# Altium footprint library con-molex-micro-fit-3_0.PCBLIB: 194 footprints (part 1 of 13)
Each footprint in its own frame and in the unit in brackets; x right, y up, seen from the top. Pads: shape width x height; smd on the part's side, far side on the other; paste and mask are expansions set on the pad; w line width, h text height; cw(c..) or ccw(c..) is an arc to the next point about the centre after c.
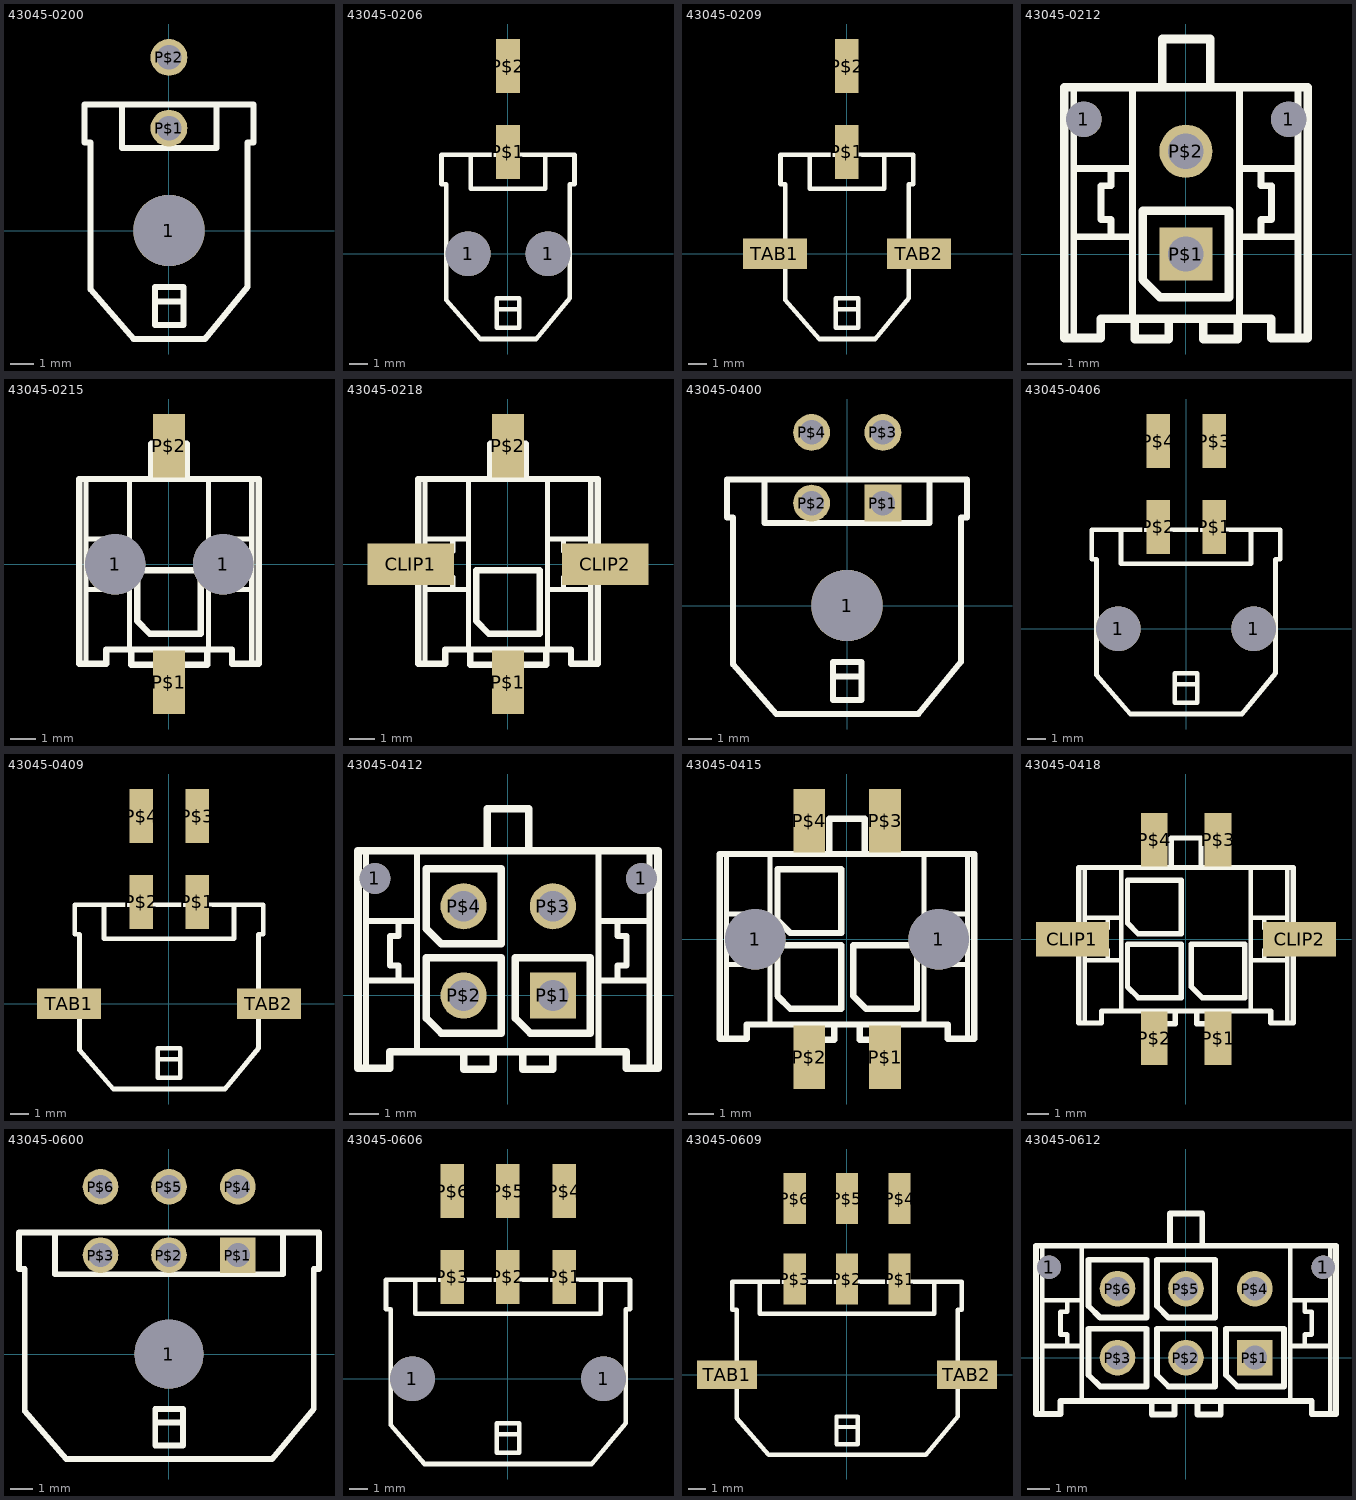
[diagram p0: the footprints below, top view; thin cyan lines are the x and y axes]

## 43045-0200 [mil]
pads (3):
  round 119 hole 119: 1(0,0)
  round 61.5 hole 41: P$1(0,171) P$2(0,289)
Top Overlay:
  lines w10: -78.74,210 -78.74,138 79,138 79,210 ; -78.74,210 79,210 ; -78.74,210 -140.94,210 -140.94,147 -130.91,147 -130.91,-98.43 -59.06,-181.1 60,-181.1 131,-94.49 131,147 141,147 141,210 79,210 ; -23.62,-118.11 24,-118.11 ; -23.62,-118.11 -23.62,-94.49 24,-94.49 24,-118.11 ; -23.62,-118.11 -23.62,-157.48 24,-157.48 24,-118.11

## 43045-0206 [mil]
pads (4):
  round 95 hole 95: 1(-84.65,0) 1(85,0)
  rect 50x115 smd: P$1(0,216) P$2(0,398)
Top Overlay:
  lines w10: -78.74,210 -140.94,210 -140.94,147 -130.91,147 -130.91,-98.43 -59.06,-181.1 60,-181.1 131,-94.49 131,147 141,147 141,210 79,210 ; -78.74,210 79,210 ; -78.74,210 -78.74,138 79,138 79,210 ; -23.62,-118.11 -23.62,-157.48 24,-157.48 24,-118.11 ; -23.62,-118.11 -23.62,-94.49 24,-94.49 24,-118.11 ; -23.62,-118.11 24,-118.11

## 43045-0209 [mil]
pads (4):
  rect 50x115 smd: P$1(0,216) P$2(0,398)
  rect 136x65 smd: TAB1(-152.76,0) TAB2(153,0)
Top Overlay:
  lines w10: -78.74,210 -140.94,210 -140.94,147 -130.91,147 -130.91,-98.43 -59.06,-181.1 60,-181.1 131,-94.49 131,147 141,147 141,210 79,210 ; -78.74,210 79,210 ; -78.74,210 -78.74,138 79,138 79,210 ; -23.62,-118.11 -23.62,-157.48 24,-157.48 24,-118.11 ; -23.62,-118.11 -23.62,-94.49 24,-94.49 24,-118.11 ; -23.62,-118.11 24,-118.11

## 43045-0212 [mil]
pads (4):
  round 41 hole 41: 1(-118.11,156) 1(119,156)
  rect 61.5x61.5 hole 41: P$1(0,0)
  round 61.5 hole 41: P$2(0,119)
Top Overlay:
  lines w8: -129.92,-97.24 -129.92,20 ; -129.92,193 -129.92,99 ; -61.81,-74.8 -61.81,20 ; -61.81,193 -61.81,99 ; 62,-74.8 62,20 ; 62,193 62,99 ; 130,-97.24 130,20 ; 130,193 130,99 ; -129.92,20 -129.92,99 ; -129.92,20 -86.61,20 ; -129.92,99 -86.61,99 ; -86.61,20 -61.81,20 ; -86.61,20 -86.61,40 -98.43,40 -98.43,79 -86.61,79 -86.61,99 ; -86.61,99 -61.81,99 ; -61.81,20 -61.81,99 ; 62,20 62,99 ; 62,20 87,20 ; 62,99 87,99 ; 87,20 130,20 ; 87,20 87,40 99,40 99,79 87,79 87,99 ; 87,99 130,99 ; 130,20 130,99
  lines w10: -59.06,-74.8 -19.68,-74.8 ; -59.06,-74.8 -61.81,-74.8 -98.43,-74.8 -98.43,-97.24 -129.92,-97.24 -140.75,-97.24 -140.75,193 -129.92,193 -61.81,193 -27.56,193 ; -59.06,-74.8 -59.06,-98.43 -19.68,-98.43 -19.68,-74.8 ; -27.56,193 28,193 ; -27.56,193 -27.56,249 28,249 28,193 ; -19.68,-74.8 20,-74.8 ; 20,-74.8 60,-74.8 ; 20,-74.8 20,-98.43 60,-98.43 60,-74.8 ; 28,193 62,193 130,193 141,193 141,-97.24 130,-97.24 99,-97.24 99,-74.8 62,-74.8 60,-74.8 ; -50,-30 -50,50 50,50 50,-50 -30,-50 -50,-30
Bottom Overlay:
  lines w10: -50,69 -50,169 50,169 50,89 30,69 -50,69

## 43045-0215 [mil]
pads (4):
  round 95 hole 95: 1(-84.65,0) 1(85,0)
  rect 50x100 smd: P$1(0,-185.04) P$2(0,186)
Top Overlay:
  lines w8: -129.92,-156.3 -129.92,-39.37 ; -129.92,134 -129.92,40 ; -61.81,-133.86 -61.81,-39.37 ; -61.81,134 -61.81,40 ; 62,-133.86 62,-39.37 ; 62,134 62,40 ; 130,-156.3 130,-39.37 ; 130,134 130,40 ; -129.92,-39.37 -129.92,40 ; -129.92,-39.37 -86.61,-39.37 ; -129.92,40 -86.61,40 ; -86.61,-39.37 -61.81,-39.37 ; -86.61,-39.37 -86.61,-19.68 -98.43,-19.68 -98.43,20 -86.61,20 -86.61,40 ; -86.61,40 -61.81,40 ; -61.81,-39.37 -61.81,40 ; 62,-39.37 62,40 ; 62,-39.37 87,-39.37 ; 62,40 87,40 ; 87,-39.37 130,-39.37 ; 87,-39.37 87,-19.68 99,-19.68 99,20 87,20 87,40 ; 87,40 130,40 ; 130,-39.37 130,40
  lines w10: -59.06,-133.86 -19.68,-133.86 ; -59.06,-133.86 -61.81,-133.86 -98.43,-133.86 -98.43,-156.3 -129.92,-156.3 -140.75,-156.3 -140.75,134 -129.92,134 -61.81,134 -27.56,134 ; -59.06,-133.86 -59.06,-157.48 -19.68,-157.48 -19.68,-133.86 ; -27.56,134 28,134 ; -27.56,134 -27.56,189 28,189 28,134 ; -19.68,-133.86 20,-133.86 ; 20,-133.86 60,-133.86 ; 20,-133.86 20,-157.48 60,-157.48 60,-133.86 ; 28,134 62,134 130,134 141,134 141,-156.3 130,-156.3 99,-156.3 99,-133.86 62,-133.86 60,-133.86 ; -50,-89.06 -50,-9.06 50,-9.06 50,-109.06 -30,-109.06 -50,-89.06
Bottom Overlay:
  lines w10: -50,10 -50,110 50,110 50,30 30,10 -50,10

## 43045-0218 [mil]
pads (4):
  rect 136x65 smd: CLIP1(-152.76,0) CLIP2(153,0)
  rect 50x100 smd: P$1(0,-185.04) P$2(0,186)
Top Overlay:
  lines w8: -129.92,-156.3 -129.92,-39.37 ; -129.92,134 -129.92,40 ; -61.81,-133.86 -61.81,-39.37 ; -61.81,134 -61.81,40 ; 62,-133.86 62,-39.37 ; 62,134 62,40 ; 130,-156.3 130,-39.37 ; 130,134 130,40 ; -129.92,-39.37 -129.92,40 ; -129.92,-39.37 -86.61,-39.37 ; -129.92,40 -86.61,40 ; -86.61,-39.37 -61.81,-39.37 ; -86.61,-39.37 -86.61,-19.68 -98.43,-19.68 -98.43,20 -86.61,20 -86.61,40 ; -86.61,40 -61.81,40 ; -61.81,-39.37 -61.81,40 ; 62,-39.37 62,40 ; 62,-39.37 87,-39.37 ; 62,40 87,40 ; 87,-39.37 130,-39.37 ; 87,-39.37 87,-19.68 99,-19.68 99,20 87,20 87,40 ; 87,40 130,40 ; 130,-39.37 130,40
  lines w10: -59.06,-133.86 -19.68,-133.86 ; -59.06,-133.86 -61.81,-133.86 -98.43,-133.86 -98.43,-156.3 -129.92,-156.3 -140.75,-156.3 -140.75,134 -129.92,134 -61.81,134 -27.56,134 ; -59.06,-133.86 -59.06,-157.48 -19.68,-157.48 -19.68,-133.86 ; -27.56,134 28,134 ; -27.56,134 -27.56,189 28,189 28,134 ; -19.68,-133.86 20,-133.86 ; 20,-133.86 60,-133.86 ; 20,-133.86 20,-157.48 60,-157.48 60,-133.86 ; 28,134 62,134 130,134 141,134 141,-156.3 130,-156.3 99,-156.3 99,-133.86 62,-133.86 60,-133.86 ; -50,-89.06 -50,-9.06 50,-9.06 50,-109.06 -30,-109.06 -50,-89.06
Bottom Overlay:
  lines w10: -50,10 -50,110 50,110 50,30 30,10 -50,10

## 43045-0400 [mil]
pads (5):
  round 119 hole 119: 1(0,0)
  rect 61.5x61.5 hole 41: P$1(60,171)
  round 61.5 hole 41: P$2(-59.06,171) P$3(60,289) P$4(-59.06,289)
Top Overlay:
  lines w10: -137.8,210 -200,210 -200,147 -189.96,147 -189.96,-98.43 -118.11,-181.1 119,-181.1 190,-94.49 190,147 200,147 200,210 138,210 ; -137.8,210 138,210 ; -137.8,210 -137.8,138 138,138 138,210 ; -23.62,-118.11 -23.62,-157.48 24,-157.48 24,-118.11 ; -23.62,-118.11 -23.62,-94.49 24,-94.49 24,-118.11 ; -23.62,-118.11 24,-118.11

## 43045-0406 [mil]
pads (6):
  round 95 hole 95: 1(-143.7,0) 1(144,0)
  rect 50x115 smd: P$1(60,216) P$2(-59.06,216) P$3(60,398) P$4(-59.06,398)
Top Overlay:
  lines w10: -190.16,210 -200,210 -200,147 -189.96,147 -189.96,-98.43 -118.11,-181.1 119,-181.1 190,-94.49 190,147 200,147 200,210 138,210 ; -189.96,210 -137.8,210 ; -137.8,210 138,210 ; -137.8,210 -137.8,138 138,138 138,210 ; -23.62,-118.11 -23.62,-157.48 24,-157.48 24,-118.11 ; -23.62,-118.11 -23.62,-94.49 24,-94.49 24,-118.11 ; -23.62,-118.11 24,-118.11

## 43045-0409 [mil]
pads (6):
  rect 50x115 smd: P$1(60,216) P$2(-59.06,216) P$3(60,398) P$4(-59.06,398)
  rect 136x65 smd: TAB1(-211.81,0) TAB2(212,0)
Top Overlay:
  lines w10: -190.16,210 -200,210 -200,147 -189.96,147 -189.96,-98.43 -118.11,-181.1 119,-181.1 190,-94.49 190,147 200,147 200,210 138,210 ; -189.96,210 -137.8,210 ; -137.8,210 138,210 ; -137.8,210 -137.8,138 138,138 138,210 ; -23.62,-118.11 -23.62,-157.48 24,-157.48 24,-118.11 ; -23.62,-118.11 -23.62,-94.49 24,-94.49 24,-118.11 ; -23.62,-118.11 24,-118.11

## 43045-0412 [mil]
pads (6):
  round 41 hole 41: 1(-177.17,156) 1(178,156)
  rect 61.5x61.5 hole 41: P$1(60,0)
  round 61.5 hole 41: P$2(-59.06,0) P$3(60,119) P$4(-59.06,119)
Top Overlay:
  lines w8: -188.98,-97.24 -188.98,20 ; -188.98,193 -188.98,99 ; -120.87,-74.8 -120.87,20 ; -120.87,193 -120.87,99 ; 121,-74.8 121,20 ; 121,193 121,99 ; 189,-97.24 189,20 ; 189,193 189,99 ; -188.98,20 -188.98,99 ; -188.98,20 -145.67,20 ; -188.98,99 -145.67,99 ; -145.67,20 -120.87,20 ; -145.67,20 -145.67,40 -157.48,40 -157.48,79 -145.67,79 -145.67,99 ; -145.67,99 -120.87,99 ; -120.87,20 -120.87,99 ; 121,20 121,99 ; 121,20 146,20 ; 121,99 146,99 ; 146,20 189,20 ; 146,20 146,40 158,40 158,79 146,79 146,99 ; 146,99 189,99 ; 189,20 189,99
  lines w10: -59.06,-74.8 -19.68,-74.8 ; -59.06,-74.8 -120.87,-74.8 -157.48,-74.8 -157.48,-97.24 -188.98,-97.24 -199.8,-97.24 -199.8,193 -188.98,193 -120.87,193 -27.56,193 ; -59.06,-74.8 -59.06,-98.43 -19.68,-98.43 -19.68,-74.8 ; -27.56,193 28,193 ; -27.56,193 -27.56,249 28,249 28,193 ; -19.68,-74.8 20,-74.8 ; 20,-74.8 60,-74.8 ; 20,-74.8 20,-98.43 60,-98.43 60,-74.8 ; 28,193 121,193 189,193 200,193 200,-97.24 189,-97.24 158,-97.24 158,-74.8 121,-74.8 60,-74.8 ; -109.06,-30 -109.06,50 -9.06,50 -9.06,-50 -89.06,-50 -109.06,-30 ; -109.06,89 -109.06,169 -9.06,169 -9.06,69 -89.06,69 -109.06,89 ; 10,-30 10,50 110,50 110,-50 30,-50 10,-30
Bottom Overlay:
  lines w10: 10,69 10,169 110,169 110,89 90,69 10,69

## 43045-0415 [mil]
pads (6):
  round 95 hole 95: 1(-143.7,0) 1(144,0)
  rect 50x100 smd: P$1(60,-185.04) P$2(-59.06,-185.04) P$3(60,186) P$4(-59.06,186)
Top Overlay:
  lines w8: -188.98,-156.3 -188.98,-39.37 ; -188.98,134 -188.98,40 ; -120.87,-133.86 -120.87,-39.37 ; -120.87,134 -120.87,40 ; 121,-133.86 121,-39.37 ; 121,134 121,40 ; 189,-156.3 189,-39.37 ; 189,134 189,40 ; -188.98,-39.37 -188.98,40 ; -188.98,-39.37 -145.67,-39.37 ; -188.98,40 -145.67,40 ; -145.67,-39.37 -120.87,-39.37 ; -145.67,-39.37 -145.67,-19.68 -157.48,-19.68 -157.48,20 -145.67,20 -145.67,40 ; -145.67,40 -120.87,40 ; -120.87,-39.37 -120.87,40 ; 121,-39.37 121,40 ; 121,-39.37 146,-39.37 ; 121,40 146,40 ; 146,-39.37 189,-39.37 ; 146,-39.37 146,-19.68 158,-19.68 158,20 146,20 146,40 ; 146,40 189,40 ; 189,-39.37 189,40
  lines w10: -59.06,-133.86 -19.68,-133.86 ; -59.06,-133.86 -120.87,-133.86 -157.48,-133.86 -157.48,-156.3 -188.98,-156.3 -199.8,-156.3 -199.8,134 -188.98,134 -120.87,134 -27.56,134 ; -59.06,-133.86 -59.06,-157.48 -19.68,-157.48 -19.68,-133.86 ; -27.56,134 28,134 ; -27.56,134 -27.56,189 28,189 28,134 ; -19.68,-133.86 20,-133.86 ; 20,-133.86 60,-133.86 ; 20,-133.86 20,-157.48 60,-157.48 60,-133.86 ; 28,134 121,134 189,134 200,134 200,-156.3 189,-156.3 158,-156.3 158,-133.86 121,-133.86 60,-133.86 ; -109.06,-89.06 -109.06,-9.06 -9.06,-9.06 -9.06,-109.06 -89.06,-109.06 -109.06,-89.06 ; -109.06,30 -109.06,110 -9.06,110 -9.06,10 -89.06,10 -109.06,30 ; 10,-89.06 10,-9.06 110,-9.06 110,-109.06 30,-109.06 10,-89.06
Bottom Overlay:
  lines w10: 10,10 10,110 110,110 110,30 90,10 10,10

## 43045-0418 [mil]
pads (6):
  rect 136x65 smd: CLIP1(-211.81,0) CLIP2(212,0)
  rect 50x100 smd: P$1(60,-185.04) P$2(-59.06,-185.04) P$3(60,186) P$4(-59.06,186)
Top Overlay:
  lines w8: -188.98,-156.3 -188.98,-39.37 ; -188.98,134 -188.98,40 ; -120.87,-133.86 -120.87,-39.37 ; -120.87,134 -120.87,40 ; 121,-133.86 121,-39.37 ; 121,134 121,40 ; 189,-156.3 189,-39.37 ; 189,134 189,40 ; -188.98,-39.37 -188.98,40 ; -188.98,-39.37 -145.67,-39.37 ; -188.98,40 -145.67,40 ; -145.67,-39.37 -120.87,-39.37 ; -145.67,-39.37 -145.67,-19.68 -157.48,-19.68 -157.48,20 -145.67,20 -145.67,40 ; -145.67,40 -120.87,40 ; -120.87,-39.37 -120.87,40 ; 121,-39.37 121,40 ; 121,-39.37 146,-39.37 ; 121,40 146,40 ; 146,-39.37 189,-39.37 ; 146,-39.37 146,-19.68 158,-19.68 158,20 146,20 146,40 ; 146,40 189,40 ; 189,-39.37 189,40
  lines w10: -59.06,-133.86 -19.68,-133.86 ; -59.06,-133.86 -120.87,-133.86 -157.48,-133.86 -157.48,-156.3 -188.98,-156.3 -199.8,-156.3 -199.8,134 -188.98,134 -120.87,134 -27.56,134 ; -59.06,-133.86 -59.06,-157.48 -19.68,-157.48 -19.68,-133.86 ; -27.56,134 28,134 ; -27.56,134 -27.56,189 28,189 28,134 ; -19.68,-133.86 20,-133.86 ; 20,-133.86 60,-133.86 ; 20,-133.86 20,-157.48 60,-157.48 60,-133.86 ; 28,134 121,134 189,134 200,134 200,-156.3 189,-156.3 158,-156.3 158,-133.86 121,-133.86 60,-133.86 ; -109.06,-89.06 -109.06,-9.06 -9.06,-9.06 -9.06,-109.06 -89.06,-109.06 -109.06,-89.06 ; -109.06,30 -109.06,110 -9.06,110 -9.06,10 -89.06,10 -109.06,30 ; 10,-89.06 10,-9.06 110,-9.06 110,-109.06 30,-109.06 10,-89.06
Bottom Overlay:
  lines w10: 10,10 10,110 110,110 110,30 90,10 10,10

## 43045-0600 [mil]
pads (7):
  round 119 hole 119: 1(0,0)
  rect 61.5x61.5 hole 41: P$1(119,171)
  round 61.5 hole 41: P$2(0,171) P$3(-118.11,171) P$4(119,289) P$5(0,289) P$6(-118.11,289)
Top Overlay:
  lines w5: -190.16,210 -196.85,210 -189.96,210
  lines w10: -196.85,210 -258.86,210 -258.86,147 -249.02,147 -249.02,-98.43 -177.17,-181.1 178,-181.1 250,-94.49 250,147 259,147 259,210 197,210 ; -196.85,210 197,210 ; -196.85,210 -196.85,138 197,138 197,210 ; -23.62,-118.11 -23.62,-157.48 24,-157.48 24,-118.11 ; -23.62,-118.11 -23.62,-94.49 24,-94.49 24,-118.11 ; -23.62,-118.11 24,-118.11

## 43045-0606 [mil]
pads (8):
  round 95 hole 95: 1(-202.76,0) 1(203,0)
  rect 50x115 smd: P$1(119,216) P$2(0,216) P$3(-118.11,216) P$4(119,398) P$5(0,398) P$6(-118.11,398)
Top Overlay:
  lines w5: -190.16,210 -196.85,210 -189.96,210
  lines w10: -196.85,210 -258.86,210 -258.86,147 -249.02,147 -249.02,-98.43 -177.17,-181.1 178,-181.1 250,-94.49 250,147 259,147 259,210 197,210 ; -196.85,210 197,210 ; -196.85,210 -196.85,138 197,138 197,210 ; -23.62,-118.11 -23.62,-157.48 24,-157.48 24,-118.11 ; -23.62,-118.11 -23.62,-94.49 24,-94.49 24,-118.11 ; -23.62,-118.11 24,-118.11

## 43045-0609 [mil]
pads (8):
  rect 50x115 smd: P$1(119,216) P$2(0,216) P$3(-118.11,216) P$4(119,398) P$5(0,398) P$6(-118.11,398)
  rect 136x65 smd: TAB1(-270.87,0) TAB2(271,0)
Top Overlay:
  lines w5: -190.16,210 -196.85,210 -189.96,210
  lines w10: -196.85,210 -258.86,210 -258.86,147 -249.02,147 -249.02,-98.43 -177.17,-181.1 178,-181.1 250,-94.49 250,147 259,147 259,210 197,210 ; -196.85,210 197,210 ; -196.85,210 -196.85,138 197,138 197,210 ; -23.62,-118.11 -23.62,-157.48 24,-157.48 24,-118.11 ; -23.62,-118.11 -23.62,-94.49 24,-94.49 24,-118.11 ; -23.62,-118.11 24,-118.11

## 43045-0612 [mil]
pads (8):
  round 41 hole 41: 1(-236.22,156) 1(237,156)
  rect 61.5x61.5 hole 41: P$1(119,0)
  round 61.5 hole 41: P$2(0,0) P$3(-118.11,0) P$4(119,119) P$5(0,119) P$6(-118.11,119)
Top Overlay:
  lines w8: -248.03,-97.24 -248.03,-66.93 -248.03,-39.37 -248.03,20 ; -248.03,193 -248.03,158 -248.03,99 ; -179.92,-74.8 -179.92,-39.37 -179.92,20 ; -179.92,193 -179.92,158 -179.92,99 ; 180,-74.8 180,-39.37 180,20 ; 180,193 180,158 180,99 ; 249,-97.24 249,-66.93 249,-39.37 249,20 ; 249,193 249,158 249,99 ; -248.03,20 -248.03,99 ; -248.03,20 -204.72,20 ; -248.03,99 -204.72,99 ; -204.72,20 -179.92,20 ; -204.72,20 -204.72,40 -216.54,40 -216.54,79 -204.72,79 -204.72,99 ; -204.72,99 -179.92,99 ; -179.92,20 -179.92,99 ; 180,20 180,99 ; 180,20 205,20 ; 180,99 205,99 ; 205,20 249,20 ; 205,20 205,40 217,40 217,79 205,79 205,99 ; 205,99 249,99 ; 249,20 249,99
  lines w10: -59.06,-74.8 -19.68,-74.8 ; -59.06,-74.8 -179.92,-74.8 -216.54,-74.8 -216.54,-97.24 -248.03,-97.24 -258.86,-97.24 -258.86,193 -248.03,193 -179.92,193 -27.56,193 ; -59.06,-74.8 -59.06,-98.43 -19.68,-98.43 -19.68,-74.8 ; -27.56,193 28,193 ; -27.56,193 -27.56,249 28,249 28,193 ; -19.68,-74.8 20,-74.8 ; 20,-74.8 60,-74.8 ; 20,-74.8 20,-98.43 60,-98.43 60,-74.8 ; 28,193 180,193 249,193 259,193 259,-97.24 249,-97.24 217,-97.24 217,-74.8 180,-74.8 60,-74.8 ; -168.11,-30 -168.11,50 -68.11,50 -68.11,-50 -148.11,-50 -168.11,-30 ; -168.11,89 -168.11,169 -68.11,169 -68.11,69 -148.11,69 -168.11,89 ; -50,-30 -50,50 50,50 50,-50 -30,-50 -50,-30 ; -50,89 -50,169 50,169 50,69 -30,69 -50,89 ; 69,-30 69,50 169,50 169,-50 89,-50 69,-30
Bottom Overlay:
  lines w10: 69,69 69,169 169,169 169,89 149,69 69,69